# Altium footprint library to-case.PcbLib: 113 footprints (part 7 of 8)
Each footprint in its own frame and in the unit in brackets; x right, y up, seen from the top. Pads: shape width x height; smd on the part's side, far side on the other; paste and mask are expansions set on the pad; w line width, h text height; cw(c..) or ccw(c..) is an arc to the next point about the centre after c.
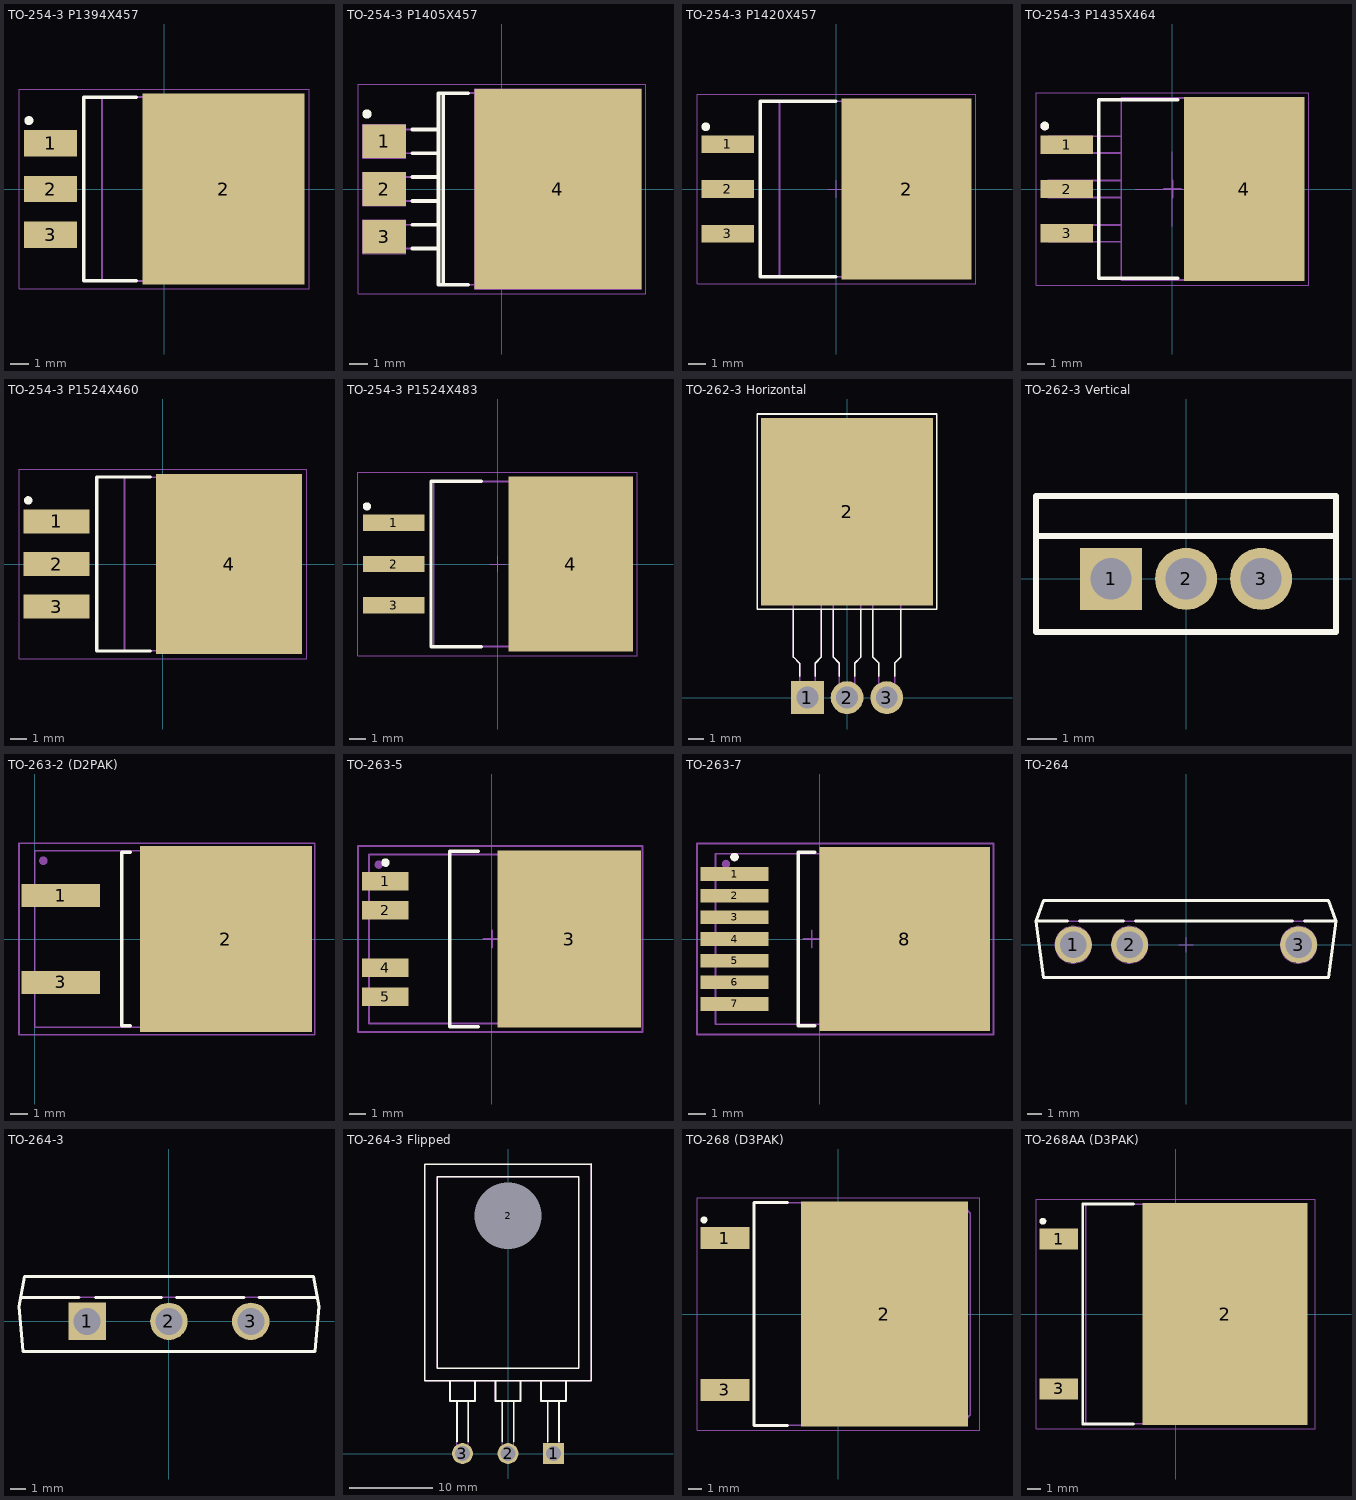
[diagram p6: the footprints below, top view; thin cyan lines are the x and y axes]

## TO-254-3 P1394X457 [mm] "D2PAK TO-263, TO, 2.54mm pitch; 3 pin, 13.945mm L X 8.89mm W X 4.57mm H body, IPC Medium Density"
height 4.57
pads (4):
  rect 2.95x1.45 smd: 1(-6.3,2.54) 2(-6.3,0) 3(-6.3,-2.54)
  rect 9x10.6 smd: 2(3.3,0)
Top Overlay:
  circle w0.25: c-7.5,3.8 r0.125
  lines w0.2: -1.55,-5.1 -4.45,-5.1 -4.45,5.1 -1.55,5.1
Top Paste:
  region: -0.5,-4.7 0.86,-4.7 0.86,-3.3 -0.5,-3.3
  region: 1.58,-4.7 2.94,-4.7 2.94,-3.3 1.58,-3.3
  region: 3.66,-4.7 5.02,-4.7 5.02,-3.3 3.66,-3.3
  region: 5.74,-4.7 7.1,-4.7 7.1,-3.3 5.74,-3.3
  region: -0.5,-2.7 0.86,-2.7 0.86,-1.3 -0.5,-1.3
  region: 1.58,-2.7 2.94,-2.7 2.94,-1.3 1.58,-1.3
  region: 3.66,-2.7 5.02,-2.7 5.02,-1.3 3.66,-1.3
  region: 5.74,-2.7 7.1,-2.7 7.1,-1.3 5.74,-1.3
  region: -0.5,-0.7 0.86,-0.7 0.86,0.7 -0.5,0.7
  region: 1.58,-0.7 2.94,-0.7 2.94,0.7 1.58,0.7
  region: 3.66,-0.7 5.02,-0.7 5.02,0.7 3.66,0.7
  region: 5.74,-0.7 7.1,-0.7 7.1,0.7 5.74,0.7
  region: -0.5,1.3 0.86,1.3 0.86,2.7 -0.5,2.7
  region: 1.58,1.3 2.94,1.3 2.94,2.7 1.58,2.7
  region: 3.66,1.3 5.02,1.3 5.02,2.7 3.66,2.7
  region: 5.74,1.3 7.1,1.3 7.1,2.7 5.74,2.7
  region: -0.5,3.3 0.86,3.3 0.86,4.7 -0.5,4.7
  region: 1.58,3.3 2.94,3.3 2.94,4.7 1.58,4.7
  region: 3.66,3.3 5.02,3.3 5.02,4.7 3.66,4.7
  region: 5.74,3.3 7.1,3.3 7.1,4.7 5.74,4.7
Mechanical 1:
  lines w0.1: 5.452,-5.11 5.954,-5.11 6.972,-3.982 6.972,3.982 5.954,5.11 5.452,5.11 ; -3.438,-5.11 -3.438,5.11 5.453,5.11 5.453,-5.11 -3.438,-5.11
Mechanical 15:
  lines w0.05: -0.5,0 0.5,0 ; 0,-0.5 0,0.5 ; -8.05,-5.55 -8.05,5.55 8.05,5.55 8.05,-5.55 -8.05,-5.55
3D body "TO254P1524X483-3N.stp": height 4.83, standoff 0, extent -7.622,-5.08 7.623,5.08

## TO-254-3 P1405X457 [mm] "DDPAK TO-263, TO, 2.54mm Pitch; 4 Pin, 10.40mm L X 8.89mm W X 4.57mm H body, IPC Medium Density"
height 4.57
pads (4):
  rect 2.3x1.8 smd: 1(-6.279,2.54) 2(-6.279,0) 3(-6.279,-2.54)
  rect 8.89x10.67 smd: 4(2.984,0)
Top Overlay:
  circle w0.25: c-7.2,4 r0.125
  lines w0.2: -4.78,-3.175 -3.389,-3.175 ; -4.78,-1.905 -3.389,-1.905 ; -4.78,-0.635 -3.389,-0.635 ; -4.78,0.635 -3.389,0.635 ; -4.78,1.905 -3.389,1.905 ; -4.78,3.175 -3.389,3.175 ; -3.127,-5.109 -3.127,5.111 ; -1.81,-5.109 -3.389,-5.109 -3.389,5.111 -1.81,5.111
Mechanical 1:
  lines w0.1: -3.389,-3.175 -7.025,-3.175 -7.025,-1.905 -3.389,-1.905 ; -3.389,-0.635 -7.025,-0.635 -7.025,0.635 -3.389,0.635 ; -3.389,1.905 -7.025,1.905 -7.025,3.175 -3.389,3.175 ; -3.127,-5.109 -3.127,5.111 ; 5.501,-5.109 5.501,5.111 ; -3.389,-5.109 6.478,-5.109 7.025,-3.605 7.025,3.605 6.477,5.111 -3.389,5.111 -3.389,-5.109
Mechanical 8:
  lines w0.05: -0.5,0 0,0 ; 0,-0.5 0,0 ; 0,0.5 0,0 ; 0.5,0 0,0 ; -7.429,-3.44 -6.279,-2.54 -7.429,-1.64 ; -7.429,-3.44 -5.129,-3.44 -5.129,-1.64 -7.429,-1.64 ; -7.429,-3.44 -7.429,-1.64 ; -7.429,-0.9 -6.279,0 -7.429,0.9 ; -7.429,-0.9 -5.129,-0.9 -5.129,0.9 -7.429,0.9 ; -7.429,-0.9 -7.429,0.9 ; -7.429,1.64 -6.279,2.54 -7.429,3.44 ; -7.429,1.64 -5.129,1.64 -5.129,3.44 -7.429,3.44 ; -7.429,1.64 -7.429,3.44 ; 7.429,-5.335 2.984,0 7.429,5.335 ; 7.429,-5.335 -1.46,-5.335 -1.46,5.335 7.429,5.335 ; 7.429,-5.335 7.429,5.335
Mechanical 15:
  lines w0.05: -0.5,0 0.5,0 ; 0,-0.5 0,0.5 ; -7.679,-5.585 -7.679,5.585 7.679,5.585 7.679,-5.585 -7.679,-5.585
3D body "TO254P1405X457-4N-R889X1067.stp": height 4.57, standoff 0, extent -7.025,-5.109 7.025,5.111

## TO-254-3 P1420X457 [mm] "D2PAK TO-263A, TO,2.54mm pitch; 3 pin, 14.195mm L X 9.195mm W X 4.57mm H body , IPC Medium Density"
height 4.57
pads (4):
  rect 3x1 smd: 1(-6.2,2.54) 2(-6.2,0) 3(-6.2,-2.54)
  rect 7.4x10.3 smd: 2(4,0)
Top Overlay:
  circle w0.25: c-7.45,3.55 r0.125
  lines w0.2: -0.05,-5 -4.35,-5 -4.35,5 -0.05,5
Top Paste:
  region: 1.09,-4.49 2.51,-4.49 2.51,-2.71 1.09,-2.71
  region: 3.29,-4.49 4.71,-4.49 4.71,-2.71 3.29,-2.71
  region: 5.49,-4.49 6.91,-4.49 6.91,-2.71 5.49,-2.71
  region: 1.09,-2.09 2.51,-2.09 2.51,-0.31 1.09,-0.31
  region: 3.29,-2.09 4.71,-2.09 4.71,-0.31 3.29,-0.31
  region: 5.49,-2.09 6.91,-2.09 6.91,-0.31 5.49,-0.31
  region: 1.09,0.31 2.51,0.31 2.51,2.09 1.09,2.09
  region: 3.29,0.31 4.71,0.31 4.71,2.09 3.29,2.09
  region: 5.49,0.31 6.91,0.31 6.91,2.09 5.49,2.09
  region: 1.09,2.71 2.51,2.71 2.51,4.49 1.09,4.49
  region: 3.29,2.71 4.71,2.71 4.71,4.49 3.29,4.49
  region: 5.49,2.71 6.91,2.71 6.91,4.49 5.49,4.49
Mechanical 1:
  lines w0.1: 5.948,-5.008 6.328,-5.008 7.098,-4.154 7.098,4.154 6.328,5.008 5.948,5.008 ; 5.948,-5.008 5.948,5.008 ; 5.948,-5.008 -3.248,-5.008 -3.248,5.008 5.948,5.008
Mechanical 15:
  lines w0.05: -0.5,0 0.5,0 ; 0,-0.5 0,0.5 ; -7.95,-5.4 -7.95,5.4 7.95,5.4 7.95,-5.4 -7.95,-5.4
3D body "TO254P1524X483-3N.stp": height 4.83, standoff 0, extent -7.622,-5.08 7.623,5.08

## TO-254-3 P1435X464 [mm] "TO-263, TO, 2.54mm pitch; 3 pin,14.35mm L X 8.64mm W X 4.64mm H body IPC Medium Density"
height 4.64
pads (4):
  rect 3x1.05 smd: 1(-6.05,2.54) 2(-6.05,0) 3(-6.05,-2.54)
  rect 6.9x10.5 smd: 4(4.1,0)
Top Overlay:
  circle w0.25: c-7.3,3.6 r0.125
  lines w0.2: 0.3,-5.1 -4.2,-5.1 -4.2,5.1 0.3,5.1
Top Paste:
  region: 1.39,-4.75 2.69,-4.75 2.69,-3.25 1.39,-3.25
  region: 3.45,-4.75 4.75,-4.75 4.75,-3.25 3.45,-3.25
  region: 5.51,-4.75 6.81,-4.75 6.81,-3.25 5.51,-3.25
  region: 1.39,-2.75 2.69,-2.75 2.69,-1.25 1.39,-1.25
  region: 3.45,-2.75 4.75,-2.75 4.75,-1.25 3.45,-1.25
  region: 5.51,-2.75 6.81,-2.75 6.81,-1.25 5.51,-1.25
  region: 1.39,-0.75 2.69,-0.75 2.69,0.75 1.39,0.75
  region: 3.45,-0.75 4.75,-0.75 4.75,0.75 3.45,0.75
  region: 5.51,-0.75 6.81,-0.75 6.81,0.75 5.51,0.75
  region: 1.39,1.25 2.69,1.25 2.69,2.75 1.39,2.75
  region: 3.45,1.25 4.75,1.25 4.75,2.75 3.45,2.75
  region: 5.51,1.25 6.81,1.25 6.81,2.75 5.51,2.75
  region: 1.39,3.25 2.69,3.25 2.69,4.75 1.39,4.75
  region: 3.45,3.25 4.75,3.25 4.75,4.75 3.45,4.75
  region: 5.51,3.25 6.81,3.25 6.81,4.75 5.51,4.75
Mechanical 1:
  circle w0.25: c-7.3,3.6 r0.125
  lines w0.1: 5.97,-5.205 7.24,-5.049 7.24,5.049 5.97,5.205 ; 5.97,-5.205 5.97,5.205 ; 5.97,-5.205 -2.92,-5.205 -2.92,5.205 5.97,5.205 ; -7.11,-3.02 -2.92,-3.02 -2.92,-2.06 -7.11,-2.06 -7.11,-3.02 ; -7.11,-0.48 -2.92,-0.48 -2.92,0.48 -7.11,0.48 -7.11,-0.48 ; -7.11,2.06 -2.92,2.06 -2.92,3.02 -7.11,3.02 -7.11,2.06
Mechanical 8:
  lines w0.1: -0.5,0 0.5,0 ; 0,-0.5 0,0.5
Mechanical 15:
  lines w0.05: -2.119,0 0,0 ; 0,-2.119 0,0 ; 0,2.119 0,0 ; 2.119,0 0,0 ; -7.8,-5.5 -7.8,5.5 7.8,5.5 7.8,-5.5 -7.8,-5.5
3D body "TO254P1435X464-4N-R1041X635.stp": height 4.64, standoff -0.01, extent -7.11,-5.205 7.24,5.205

## TO-254-3 P1524X460 [mm] "D2PAK TO-263, TO, 2.54mm Pitch; 3 Pin, 15.24mm L X 10.36mm W X 4.597mm H Body, IPC Medium Density"
height 4.6
pads (4):
  rect 3.95x1.45 smd: 1(-6.35,2.54) 2(-6.35,0) 3(-6.35,-2.54)
  rect 8.7x10.75 smd: 4(3.95,0)
Top Overlay:
  circle w0.25: c-8.05,3.8 r0.125
  lines w0.2: -0.75,-5.2 -3.95,-5.2 -3.95,5.2 -0.75,5.2
Top Paste:
  region: 0.3,-4.76 1.6,-4.76 1.6,-3.32 0.3,-3.32
  region: 2.3,-4.76 3.6,-4.76 3.6,-3.32 2.3,-3.32
  region: 4.3,-4.76 5.6,-4.76 5.6,-3.32 4.3,-3.32
  region: 6.3,-4.76 7.6,-4.76 7.6,-3.32 6.3,-3.32
  region: 0.3,-2.74 1.6,-2.74 1.6,-1.3 0.3,-1.3
  region: 2.3,-2.74 3.6,-2.74 3.6,-1.3 2.3,-1.3
  region: 4.3,-2.74 5.6,-2.74 5.6,-1.3 4.3,-1.3
  region: 6.3,-2.74 7.6,-2.74 7.6,-1.3 6.3,-1.3
  region: 0.3,-0.72 1.6,-0.72 1.6,0.72 0.3,0.72
  region: 2.3,-0.72 3.6,-0.72 3.6,0.72 2.3,0.72
  region: 4.3,-0.72 5.6,-0.72 5.6,0.72 4.3,0.72
  region: 6.3,-0.72 7.6,-0.72 7.6,0.72 6.3,0.72
  region: 0.3,1.3 1.6,1.3 1.6,2.74 0.3,2.74
  region: 2.3,1.3 3.6,1.3 3.6,2.74 2.3,2.74
  region: 4.3,1.3 5.6,1.3 5.6,2.74 4.3,2.74
  region: 6.3,1.3 7.6,1.3 7.6,2.74 6.3,2.74
  region: 0.3,3.32 1.6,3.32 1.6,4.76 0.3,4.76
  region: 2.3,3.32 3.6,3.32 3.6,4.76 2.3,4.76
  region: 4.3,3.32 5.6,3.32 5.6,4.76 4.3,4.76
  region: 6.3,3.32 7.6,3.32 7.6,4.76 6.3,4.76
Mechanical 1:
  lines w0.1: 6.477,-5.182 -2.299,-5.182 -2.299,5.182 6.477,5.182 ; 6.477,-5.182 6.477,5.182 ; 6.477,-5.182 6.854,-5.182 7.62,-4.332 7.62,4.332 6.854,5.182 6.477,5.182
Mechanical 15:
  circle w0.05: c0,0 r0.35
  lines w0.05: -0.5,0 0.5,0 ; 0,-0.5 0,0.5 ; -8.6,-5.65 8.6,-5.65 8.6,5.65 -8.6,5.65 -8.6,-5.65
3D body "TO254P1524X460-4N-S769X1066.stp": height 4.59, standoff 0, extent -7.935,-5.335 7.935,5.335

## TO-254-3 P1524X483 [mm] "D2PAK TO-263, TO, 2.54mm pitch; 3 pin, 15.24mm L X 10.67mm W X 4.83mm H body, IPC Medium Density"
height 4.83
pads (4):
  rect 3.8x1 smd: 1(-6.4,2.54) 2(-6.4,0) 3(-6.4,-2.54)
  rect 7.65x10.75 smd: 4(4.5,0)
Top Overlay:
  circle w0.25: c-8.05,3.55 r0.125
  lines w0.2: -1,-5.1 -4.1,-5.1 -4.1,5.1 -1,5.1
Top Paste:
  region: 6.77,3.36 8.11,3.36 8.11,4.8 6.77,4.8
  region: 4.71,3.36 6.05,3.36 6.05,4.8 4.71,4.8
  region: 2.65,3.36 3.99,3.36 3.99,4.8 2.65,4.8
  region: 0.59,3.36 1.93,3.36 1.93,4.8 0.59,4.8
  region: 6.77,1.32 8.11,1.32 8.11,2.76 6.77,2.76
  region: 4.71,1.32 6.05,1.32 6.05,2.76 4.71,2.76
  region: 2.65,1.32 3.99,1.32 3.99,2.76 2.65,2.76
  region: 0.59,1.32 1.93,1.32 1.93,2.76 0.59,2.76
  region: 6.77,-0.72 8.11,-0.72 8.11,0.72 6.77,0.72
  region: 4.71,-0.72 6.05,-0.72 6.05,0.72 4.71,0.72
  region: 2.65,-0.72 3.99,-0.72 3.99,0.72 2.65,0.72
  region: 0.59,-0.72 1.93,-0.72 1.93,0.72 0.59,0.72
  region: 6.77,-2.76 8.11,-2.76 8.11,-1.32 6.77,-1.32
  region: 4.71,-2.76 6.05,-2.76 6.05,-1.32 4.71,-1.32
  region: 2.65,-2.76 3.99,-2.76 3.99,-1.32 2.65,-1.32
  region: 0.59,-2.76 1.93,-2.76 1.93,-1.32 0.59,-1.32
  region: 6.77,-4.8 8.11,-4.8 8.11,-3.36 6.77,-3.36
  region: 4.71,-4.8 6.05,-4.8 6.05,-3.36 4.71,-3.36
  region: 2.65,-4.8 3.99,-4.8 3.99,-3.36 2.65,-3.36
  region: 0.59,-4.8 1.93,-4.8 1.93,-3.36 0.59,-3.36
Mechanical 1:
  lines w0.1: 6.48,-5.08 6.856,-5.08 7.62,-4.234 7.62,4.234 6.856,5.08 6.48,5.08 ; 6.48,-5.08 6.48,5.08 ; 6.48,-5.08 -3.945,-5.08 -3.945,5.08 6.48,5.08
Mechanical 15:
  lines w0.05: -0.5,0 0.5,0 ; 0,-0.5 0,0.5 ; -8.6,-5.65 8.6,-5.65 8.6,5.65 -8.6,5.65 -8.6,-5.65
3D body "TO254P1524X483-4N-R765X1075.stp": height 4.83, standoff 0, extent -7.622,-5.08 7.623,5.08

## TO-262-3 Horizontal [mm] "TO-262 3-Terminal + Tab - Horizontal Mount"
height 4.83
pads (4):
  rect 2.1x2.1 hole 1.4: 1(-2.54,0)
  rect 11x12 smd paste-5.5: 2(-0.002,11.898)
  round 2.1 hole 1.4: 2(0,0) 3(2.54,0)
Top Overlay:
  lines w0.1: -3.43,5.648 -3.43,2.59 -3.04,2.2 -3.04,1.361 ; -2.04,1.361 -2.04,2.2 -1.65,2.59 -1.65,5.648 ; -0.89,5.648 -0.89,2.59 -0.5,2.2 -0.5,1.361 ; 0.5,1.361 0.5,2.2 0.89,2.59 0.89,5.648 ; 1.65,5.648 1.65,2.59 2.04,2.2 2.04,1.361 ; 3.04,1.361 3.04,2.2 3.43,2.59 3.43,5.648 ; -5.752,5.648 -5.752,18.148 5.748,18.148 5.748,5.648 -5.752,5.648
Mechanical 1:
  lines w0.1: -5.083,15.815 5.077,15.815 ; -3.43,6.3 -3.43,2.59 -3.04,2.2 -3.04,-0.25 -2.04,-0.25 -2.04,2.2 -1.65,2.59 -1.65,6.3 ; -0.89,6.3 -0.89,2.59 -0.5,2.2 -0.5,-0.25 0.5,-0.25 0.5,2.2 0.89,2.59 0.89,6.3 ; 1.65,6.3 1.65,2.59 2.04,2.2 2.04,-0.25 3.04,-0.25 3.04,2.2 3.43,2.59 3.43,6.3 ; -5.083,6.3 -5.083,16.86 -3.338,17.495 3.333,17.495 5.077,16.86 5.077,6.3 -5.083,6.3
Mechanical 8:
  lines w0.1: -3.04,0 -2.54,0 ; -2.54,-0.5 -2.54,0 ; -2.54,0.5 -2.54,0 ; -2.04,0 -2.54,0 ; 2.04,0 2.54,0 ; 2.54,-0.5 2.54,0 ; 2.54,0.5 2.54,0 ; 3.04,0 2.54,0
  text "This Pad" at -3.8,9.75 h1
  text "Mask on" at -3.5,11.425 h1
  text "No Paste" at -3.725,13 h1
Mechanical 13:
  lines w0.2: -5.083,6.7 -5.083,6.3 -4.5,6.3
Mechanical 15:
  lines w0.1: -5.083,15.815 5.077,15.815 ; -3.43,6.3 -3.43,2.59 -3.04,2.2 -3.04,-0.25 -2.04,-0.25 -2.04,2.2 -1.65,2.59 -1.65,6.3 ; -0.89,6.3 -0.89,2.59 -0.5,2.2 -0.5,-0.25 0.5,-0.25 0.5,2.2 0.89,2.59 0.89,6.3 ; -0.5,0 0,0 ; 0,-0.5 0,0 ; 0,0.5 0,0 ; 0.5,0 0,0 ; 1.65,6.3 1.65,2.59 2.04,2.2 2.04,-0.25 3.04,-0.25 3.04,2.2 3.43,2.59 3.43,6.3 ; -5.083,6.3 5.077,6.3 5.077,16.86 3.333,17.495 -3.338,17.495 -5.083,16.86 -5.083,6.3
3D body "TO-262-H.stp": height 4.6, standoff -3.6, extent -5.082,-0.25 5.078,17.495

## TO-262-3 Vertical [mm] "TO-262 3-Terminal - Vertical Mount"
height 15.01
pads (3):
  rect 2.1x2.1 hole 1.4: 1(-2.54,0)
  round 2.1 hole 1.4: 2(0,0) 3(2.54,0)
Top Overlay:
  lines w0.2: -5.082,1.445 5.078,1.445 ; -5.082,-1.795 -5.082,2.805 5.078,2.805 5.078,-1.795 -5.082,-1.795
Mechanical 1:
  lines w0.1: -5.082,1.445 5.078,1.445 ; -5.082,-1.795 -5.082,2.805 5.078,2.805 5.078,-1.795 -5.082,-1.795
Mechanical 8:
  lines w0.1: -3.04,0 -2.54,0 ; -2.54,-0.5 -2.54,0 ; -2.54,0.5 -2.54,0 ; -2.04,0 -2.54,0 ; 2.04,0 2.54,0 ; 2.54,-0.5 2.54,0 ; 2.54,0.5 2.54,0 ; 3.04,0 2.54,0
Mechanical 15:
  lines w0.1: -5.081,1.439 5.079,1.439 ; -0.5,0 0,0 ; 0,-0.5 0,0 ; 0,0.5 0,0 ; 0.5,0 0,0 ; -5.081,-1.801 5.079,-1.801 5.079,2.799 -5.081,2.799 -5.081,-1.801
3D body "TO-262-V.stp": height 15.3, standoff -3.6, extent -5.082,-1.795 5.078,2.805

## TO-263-2 (D2PAK) [mm]
height 2.38
pads (4):
  rect 4.5x1.3 smd: 1(1.5,2.5) 3(1.5,-2.5)
  rect 9.9x10.7 smd: 2(11,0)
  round 0.5 on Mech1: ""(0.5,4.5)
Top Overlay:
  lines w0.2: 5.5,-5 5,-5 5,5 5.5,5
Mechanical 1:
  lines w0.1: 0,-5.08 0,5.08 15.264,5.08 15.264,-5.08 0,-5.08
Mechanical 15:
  lines w0.1: -0.9,-5.5 -0.9,5.5 16.1,5.5 16.1,-5.5 -0.9,-5.5
3D body "User Library-DPAK.STEP": height 4.88, standoff -0.13, extent 0,-5.08 15.264,5.08

## TO-263-5 [mm]
height 4.65
pads (6):
  rect 2.75x1.1 smd: 1(-6.3,3.42) 2(-6.3,1.71) 4(-6.3,-1.71) 5(-6.3,-3.42)
  rect 8.5x10.5 smd: 3(4.572,0)
  round 0.5 on Mech1: ""(-6.7,4.4)
Top Overlay:
  circle w0.25: c-6.3,4.52 r0.125
  lines w0.2: -0.8,-5.2 -2.5,-5.2 -2.5,5.2 -0.8,5.2
Mechanical 1:
  lines w0.1: -7.276,-5 -7.276,5 8.394,5 8.394,-5 -7.276,-5
Mechanical 15:
  lines w0.1: -0.5,0 0.5,0 ; 0,-0.5 0,0.5 ; -7.925,-5.5 8.9,-5.5 8.9,5.5 -7.925,5.5 -7.925,-5.5
3D body "TO263-5S.STEP": height 4.93, standoff 0.13, extent -7.276,-5 8.394,5

## TO-263-7 [mm] "TO263-7 (D2Pak, 7-Pads)"
height 4.6
pads (9):
  rect 4x0.8 smd paste+0: 1(-5,3.81) 4(-5,0)
  rect 4x0.8 smd: 2(-5,2.54) 3(-5,1.27) 5(-5,-1.27) 6(-5,-2.54) 7(-5,-3.81)
  rect 10x10.8 smd: 8(5,0)
  round 0.5 on Mech1: ""(-5.5,4.4)
Top Overlay:
  circle w0.25: c-5,4.81 r0.125
  lines w0.2: -0.3,-5.08 -1.25,-5.08 -1.25,5.08 -0.3,5.08
Mechanical 1:
  lines w0.1: -6.117,-5 -6.117,5 9.553,5 9.553,-5 -6.117,-5
Mechanical 15:
  lines w0.1: -0.974,0 0.026,0 ; -0.472,-0.5 -0.472,0.5 ; -7.2,-5.6 -7.195,5.6 10.2,5.6 10.2,-5.6 -7.2,-5.6
3D body "TO263-7-1.STEP": height 4.83, standoff 0.03, extent -6.117,-5 9.553,5

## TO-264 [mm] "IXYS ISOPLUS264 Case, Lead spacing 3.81mm Body 20.29mm X 5.21mm - Vertical Mount"
height 30
pads (3):
  round 2.5 hole 1.8: 1(-7.62,0) 2(-3.81,0) 3(7.62,0)
Top Overlay:
  lines w0.2: -8.023,1.6 -10.145,1.6 ; -7.217,1.6 -4.213,1.6 ; -3.407,1.6 7.217,1.6 ; 8.023,1.6 10.145,1.6 ; -10.145,1.6 -9.645,3 9.645,3 10.145,1.6 ; -10.145,1.6 -9.645,-2.21 9.645,-2.21 10.145,1.6
Mechanical 1:
  lines w0.1: -10.145,1.6 10.145,1.6 ; -10.145,1.6 -9.645,-2.21 9.645,-2.21 10.145,1.6 ; -10.145,1.6 -9.645,3 9.645,3 10.145,1.6
Mechanical 8:
  circle w0.05: c7.62,0 r1.25
  circle w0.05: c7.62,0 r0.9
  circle w0.05: c-3.81,0 r1.25
  circle w0.05: c-3.81,0 r0.9
  circle w0.05: c-7.62,0 r1.25
  circle w0.05: c-7.62,0 r0.9
  lines w0.05: -8.12,0 -7.62,0 ; -7.62,-0.5 -7.62,0 ; -7.62,0.5 -7.62,0 ; -7.12,0 -7.62,0 ; -4.31,0 -3.81,0 ; -3.81,-0.5 -3.81,0 ; -3.81,0.5 -3.81,0 ; -3.31,0 -3.81,0 ; 7.12,0 7.62,0 ; 7.62,-0.5 7.62,0 ; 7.62,0.5 7.62,0 ; 8.12,0 7.62,0
Mechanical 15:
  lines w0.05: -0.5,0 0,0 ; 0,-0.5 0,0 ; 0,0.5 0,0 ; 0.5,0 0,0
  lines w0.1: -10.145,1.6 -9.645,3 9.645,3 10.145,1.6 ; -10.145,1.6 10.145,1.6 ; -10.145,1.6 -9.645,-2.21 9.645,-2.21 10.145,1.6
3D body "IXYS_ISOPLUS264_V.stp": height 30, standoff -3.8, extent -10.145,-2.21 10.145,3

## TO-264-3 [mm] "TO-264 3-Terminal - Vertical Mount"
height 25
pads (3):
  rect 2.5x2.5 hole 1.8: 1(-5.46,0)
  round 2.5 hole 1.8: 2(0,0) 3(5.46,0)
Top Overlay:
  lines w0.2: -9.891,1.6 -6,1.6 ; -10,1 -9.725,-2 9.736,-2 10.011,1 9.65,2.984 -9.639,2.984 -10,1 ; -4.9,1.6 -0.5,1.6 -4.9,1.6 ; 0.5,1.6 5,1.6 0.5,1.6 ; 6,1.6 9.902,1.6 6,1.6
Mechanical 1:
  lines w0.1: -9.891,1.6 9.9,1.6 ; -10,1 -9.639,2.984 9.65,2.984 10.011,1 9.736,-2 -9.725,-2 -10,1
Mechanical 15:
  lines w0.1: -9.891,1.6 9.9,1.6 ; -0.5,0 0,0 ; 0,-0.5 0,0 ; 0,0.5 0,0 ; 0.5,0 0,0 ; -10,1 -9.639,2.984 9.65,2.984 10.011,1 9.736,-2 -9.725,-2 -10,1
3D body "TO-264-3-VM.stp": height 40, standoff -5.41, extent -10,-2 10,3.001

## TO-264-3 Flipped [mm] "TO-264 3-Terminal - Flipped Horizontal Mount"
height 5.26
pads (4):
  rect 2.5x2.5 hole 1.8: 1(5.46,0)
  round 2.5 hole 1.8: 2(0,0) 3(-5.46,0)
  round 1.5 hole 8 unplated mask+3.25: 2(0,28.5)
Top Overlay:
  lines w0.2: -6.95,8.717 -6.95,6.3 -6.125,6.3 ; -6.125,1.429 -6.125,1.84 -6.125,6.3 ; -4.775,1.429 -4.775,1.84 -4.775,6.3 ; -3.95,8.715 -3.95,6.3 -4.775,6.3 ; -1.5,8.717 -1.5,6.3 -0.675,6.3 ; -0.675,1.429 -0.675,1.84 -0.675,6.3 ; 0.675,1.429 0.675,1.84 0.675,6.3 ; 1.5,8.715 1.5,6.3 0.675,6.3 ; 3.95,8.717 3.95,6.3 4.775,6.3 ; 4.775,1.429 4.775,1.84 4.775,6.3 ; 6.125,1.429 6.125,1.84 6.125,6.3 ; 6.95,8.715 6.95,6.3 6.125,6.3 ; -6.125,6.3 -4.775,6.3 ; -0.675,6.3 0.675,6.3 ; 4.775,6.3 6.125,6.3 ; -10,8.725 10,8.725 10,34.721 -10,34.71 -10,8.725 ; -8.475,10.225 8.5,10.225 8.5,33.2 -8.475,33.2 -8.475,10.225
Mechanical 1:
  circle w0.1: c-0.025,28.475 r3.202
  lines w0.1: -6.95,8.717 -6.95,6.3 -6.125,6.3 ; -3.95,8.715 -3.95,6.3 -4.775,6.3 ; -1.5,8.717 -1.5,6.3 -0.675,6.3 ; 1.5,8.715 1.5,6.3 0.675,6.3 ; 3.95,8.717 3.95,6.3 4.775,6.3 ; 6.95,8.715 6.95,6.3 6.125,6.3 ; -6.125,6.3 -4.775,6.3 ; -6.125,6.3 -6.125,1.84 -6.125,-0.299 -4.775,-0.299 -4.775,1.84 -4.775,6.3 ; -0.675,6.3 0.675,6.3 ; -0.675,6.3 -0.675,1.84 -0.675,-0.299 0.675,-0.299 0.675,1.84 0.675,6.3 ; 4.775,6.3 6.125,6.3 ; 4.775,6.3 4.775,1.84 4.775,-0.299 6.125,-0.299 6.125,1.84 6.125,6.3 ; -10,8.725 -10,34.71 10,34.72 10,8.725 -10,8.725 ; -8.475,10.225 -8.475,33.2 8.5,33.2 8.5,10.225 -8.475,10.225
Mechanical 15:
  circle w0.1: c-0.025,28.475 r3.202
  lines w0.1: -6.95,8.717 -6.95,6.3 -6.125,6.3 ; -3.95,8.715 -3.95,6.3 -4.775,6.3 ; -1.5,8.717 -1.5,6.3 -0.675,6.3 ; 1.5,8.715 1.5,6.3 0.675,6.3 ; 3.95,8.717 3.95,6.3 4.775,6.3 ; 6.95,8.715 6.95,6.3 6.125,6.3 ; -6.125,6.3 -4.775,6.3 ; -6.125,6.3 -6.125,1.84 -6.125,-0.299 -4.775,-0.299 -4.775,1.84 -4.775,6.3 ; -1.025,28.475 -0.025,28.475 ; -1.025,28.475 -0.025,28.475 ; -1.025,28.475 -0.025,28.475 ; -0.675,6.3 -0.675,1.84 -0.675,-0.299 0.675,-0.299 0.675,1.84 0.675,6.3 ; -0.675,6.3 0.675,6.3 ; -0.025,27.475 -0.025,28.475 ; -0.025,27.475 -0.025,28.475 ; -0.025,27.475 -0.025,28.475 ; -0.025,28.475 -0.025,29.475 ; -0.025,28.475 -0.025,29.475 ; -0.025,28.475 0.975,28.475 ; -0.025,28.475 -0.025,29.475 ; -0.025,28.475 0.975,28.475 ; -0.025,28.475 0.975,28.475 ; 4.775,6.3 6.125,6.3 ; 4.775,6.3 4.775,1.84 4.775,-0.299 6.125,-0.299 6.125,1.84 6.125,6.3 ; -10,8.725 -10,34.71 10,34.72 10,8.725 -10,8.725 ; -8.475,10.225 -8.475,33.2 8.5,33.2 8.5,10.225 -8.475,10.225
3D body "TO-264-3-HM.stp": height 5.05, standoff -9.25, extent -10,-0.3 10,34.712

## TO-268 (D3PAK) [mm] "D3PAK TO-268, TO,5.45mm Pitch; 2 Pin,18.90mm L X 13.90mm W X 5.10mm H body, IPC Medium Density"
height 5.1
pads (3):
  rect 3.5x1.55 smd: 1(-8.15,5.45) 3(-8.15,-5.45)
  rect 12x16.15 smd: 2(3.3,0)
Top Overlay:
  circle w0.25: c-9.65,6.75 r0.125
  lines w0.2: -3.65,-8 -6.05,-8 -6.05,8 -3.65,8
Top Paste:
  region: 7.43,5.5 9.01,5.5 9.01,7.3 7.43,7.3
  region: 4.97,5.5 6.55,5.5 6.55,7.3 4.97,7.3
  region: 2.51,5.5 4.09,5.5 4.09,7.3 2.51,7.3
  region: 0.05,5.5 1.63,5.5 1.63,7.3 0.05,7.3
  region: -2.41,5.5 -0.83,5.5 -0.83,7.3 -2.41,7.3
  region: 7.43,2.94 9.01,2.94 9.01,4.74 7.43,4.74
  region: 4.97,2.94 6.55,2.94 6.55,4.74 4.97,4.74
  region: 2.51,2.94 4.09,2.94 4.09,4.74 2.51,4.74
  region: 0.05,2.94 1.63,2.94 1.63,4.74 0.05,4.74
  region: -2.41,2.94 -0.83,2.94 -0.83,4.74 -2.41,4.74
  region: 7.43,0.38 9.01,0.38 9.01,2.18 7.43,2.18
  region: 4.97,0.38 6.55,0.38 6.55,2.18 4.97,2.18
  region: 2.51,0.38 4.09,0.38 4.09,2.18 2.51,2.18
  region: 0.05,0.38 1.63,0.38 1.63,2.18 0.05,2.18
  region: -2.41,0.38 -0.83,0.38 -0.83,2.18 -2.41,2.18
  region: 7.43,-2.18 9.01,-2.18 9.01,-0.38 7.43,-0.38
  region: 4.97,-2.18 6.55,-2.18 6.55,-0.38 4.97,-0.38
  region: 2.51,-2.18 4.09,-2.18 4.09,-0.38 2.51,-0.38
  region: 0.05,-2.18 1.63,-2.18 1.63,-0.38 0.05,-0.38
  region: -2.41,-2.18 -0.83,-2.18 -0.83,-0.38 -2.41,-0.38
  region: 7.43,-4.74 9.01,-4.74 9.01,-2.94 7.43,-2.94
  region: 4.97,-4.74 6.55,-4.74 6.55,-2.94 4.97,-2.94
  region: 2.51,-4.74 4.09,-4.74 4.09,-2.94 2.51,-2.94
  region: 0.05,-4.74 1.63,-4.74 1.63,-2.94 0.05,-2.94
  region: -2.41,-4.74 -0.83,-4.74 -0.83,-2.94 -2.41,-2.94
  region: 7.43,-7.3 9.01,-7.3 9.01,-5.5 7.43,-5.5
  region: 4.97,-7.3 6.55,-7.3 6.55,-5.5 4.97,-5.5
  region: 2.51,-7.3 4.09,-7.3 4.09,-5.5 2.51,-5.5
  region: 0.05,-7.3 1.63,-7.3 1.63,-5.5 0.05,-5.5
  region: -2.41,-7.3 -0.83,-7.3 -0.83,-5.5 -2.41,-5.5
Mechanical 1:
  lines w0.1: 8.45,-7.975 8.78,-7.975 9.45,-7.233 9.45,7.233 8.78,7.975 8.45,7.975 ; 8.45,-7.975 8.45,7.975 ; 8.45,-7.975 -6.025,-7.975 -6.025,7.975 8.45,7.975
Mechanical 15:
  circle w0.05: c0,0 r0.35
  lines w0.05: -0.5,0 0.5,0 ; 0,-0.5 0,0.5 ; -10.15,-8.35 -10.15,8.35 10.15,8.35 10.15,-8.35 -10.15,-8.35
3D body "TO545P1890X510-3N-R1270X1605.stp": height 5.1, standoff 0, extent -9.525,-8 9.525,8

## TO-268AA (D3PAK) [mm] "D3PAK TO-268AA TO, 5.45mm Pitch; 2 Pin,18.90mm L X 14.975mm W X 5.10mm H Body, IPC Medium Density"
height 5.1
pads (3):
  rect 2.8x1.55 smd: 1(-8.5,5.45) 3(-8.5,-5.45)
  rect 12x16.15 smd: 2(3.6,0)
Top Overlay:
  circle w0.25: c-9.65,6.75 r0.125
  lines w0.2: -3.05,-8 -6.75,-8 -6.75,8 -3.05,8
Top Paste:
  region: -1.82,-7.31 -0.34,-7.31 -0.34,-5.49 -1.82,-5.49
  region: 0.52,-7.31 2,-7.31 2,-5.49 0.52,-5.49
  region: 2.86,-7.31 4.34,-7.31 4.34,-5.49 2.86,-5.49
  region: 5.2,-7.31 6.68,-7.31 6.68,-5.49 5.2,-5.49
  region: 7.54,-7.31 9.02,-7.31 9.02,-5.49 7.54,-5.49
  region: -1.82,-4.75 -0.34,-4.75 -0.34,-2.93 -1.82,-2.93
  region: 0.52,-4.75 2,-4.75 2,-2.93 0.52,-2.93
  region: 2.86,-4.75 4.34,-4.75 4.34,-2.93 2.86,-2.93
  region: 5.2,-4.75 6.68,-4.75 6.68,-2.93 5.2,-2.93
  region: 7.54,-4.75 9.02,-4.75 9.02,-2.93 7.54,-2.93
  region: -1.82,-2.19 -0.34,-2.19 -0.34,-0.37 -1.82,-0.37
  region: 0.52,-2.19 2,-2.19 2,-0.37 0.52,-0.37
  region: 2.86,-2.19 4.34,-2.19 4.34,-0.37 2.86,-0.37
  region: 5.2,-2.19 6.68,-2.19 6.68,-0.37 5.2,-0.37
  region: 7.54,-2.19 9.02,-2.19 9.02,-0.37 7.54,-0.37
  region: -1.82,0.37 -0.34,0.37 -0.34,2.19 -1.82,2.19
  region: 0.52,0.37 2,0.37 2,2.19 0.52,2.19
  region: 2.86,0.37 4.34,0.37 4.34,2.19 2.86,2.19
  region: 5.2,0.37 6.68,0.37 6.68,2.19 5.2,2.19
  region: 7.54,0.37 9.02,0.37 9.02,2.19 7.54,2.19
  region: -1.82,2.93 -0.34,2.93 -0.34,4.75 -1.82,4.75
  region: 0.52,2.93 2,2.93 2,4.75 0.52,4.75
  region: 2.86,2.93 4.34,2.93 4.34,4.75 2.86,4.75
  region: 5.2,2.93 6.68,2.93 6.68,4.75 5.2,4.75
  region: 7.54,2.93 9.02,2.93 9.02,4.75 7.54,4.75
  region: -1.82,5.49 -0.34,5.49 -0.34,7.31 -1.82,7.31
  region: 0.52,5.49 2,5.49 2,7.31 0.52,7.31
  region: 2.86,5.49 4.34,5.49 4.34,7.31 2.86,7.31
  region: 5.2,5.49 6.68,5.49 6.68,7.31 5.2,7.31
  region: 7.54,5.49 9.02,5.49 9.02,7.31 7.54,7.31
Mechanical 1:
  lines w0.1: 8.45,-7.975 8.45,7.975 ; 8.45,-7.975 8.78,-7.975 9.45,-7.233 9.45,7.233 8.78,7.975 8.45,7.975 ; 8.45,-7.975 -6.525,-7.975 -6.525,7.975 8.45,7.975
Mechanical 15:
  circle w0.05: c0,0 r0.35
  lines w0.05: -0.5,0 0.5,0 ; 0,-0.5 0,0.5 ; -10.15,-8.35 10.15,-8.35 10.15,8.35 -10.15,8.35 -10.15,-8.35
3D body "TO545P1890X510-3N-R1210X1605.stp": height 5.1, standoff 0, extent -9.7,-8.025 9.4,8.025